# Altium footprint library LibPCB_CAN2USB.PcbLib: 1 footprints
Each footprint in its own frame and in the unit in brackets; x right, y up, seen from the top. Pads: shape width x height; smd on the part's side, far side on the other; paste and mask are expansions set on the pad; w line width, h text height; cw(c..) or ccw(c..) is an arc to the next point about the centre after c.
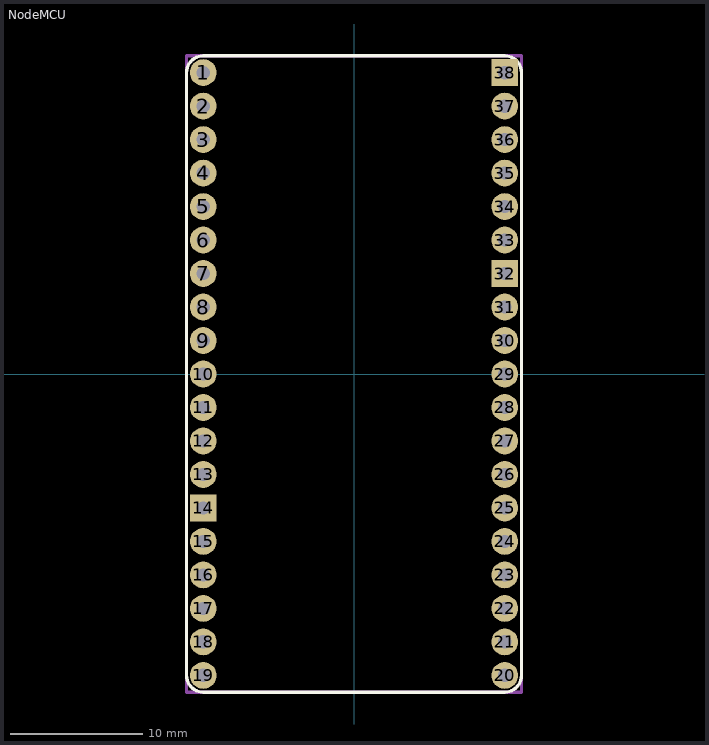
[diagram p0: the footprint, top view; thin cyan lines are the x and y axes]

## NodeMCU [mil]
pads (38):
  round 80 hole 40: 1(-450,900) 2(-450,800) 3(-450,700) 4(-450,600) 5(-450,500) 6(-450,400) 7(-450,300) 8(-450,200) 9(-450,100) 10(-450,0) 11(-450,-100) 12(-450,-200) 13(-450,-300) 15(-450,-500) 16(-450,-600) 17(-450,-700) 18(-450,-800) 19(-450,-900) 20(450,-900) 21(450,-800) 22(450,-700) 23(450,-600) 24(450,-500) 25(450,-400) 26(450,-300) 27(450,-200) 28(450,-100) 29(450,0) 30(450,100) 31(450,200) 33(450,400) 34(450,500) 35(450,600) 36(450,700) 37(450,800)
  rect 80x80 hole 40: 14(-450,-400) 32(450,300) 38(450,900)
Top Overlay:
  lines w10: -500,-900 ccw(c-450,-900) -450,-950 450,-950 ccw(c450,-900) 500,-900 500,900 ccw(c450,900) 450,950 -450,950 ccw(c-450,900) -500,900 -500,-900
Mechanical 1:
  lines w10: -500,-950 500,-950 500,950 -500,950 -500,-950
3D body "ESP8266 v7.stp": height 310.63, standoff -244.1, extent -500,-974.8 505.9,947.24